# EAGLE library part TPS62130RGTR (library Kas-Power Regulator)
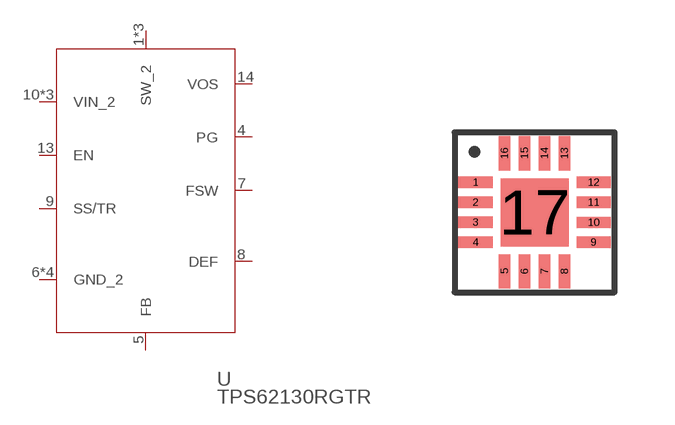
[diagram p1: symbol with the pads of S-PVQFN-N16; footprint S-PVQFN-N16]

Designator prefix U

## TPS62130RGTR (DATASHEETURL: http://www.ti.com/product/tps62130; FREQUENCY: 2500000.0; IMAX: 3.0; MANUFACTURER_NAME: Texas Instruments; MANUFACTURER_PART_NUMBER: TPS62130RGTR; MKTG_PACKAGE: RGT; NSID: TPS62130RGTR; PACKAGE: RGT; VENDOR: Texas Instruments)  [S-PVQFN-N16]
1  SW_2  pas
2  SW_2  pas
3  SW_2  pas
4  PG  pas
5  FB  pas
6  GND_2  pas
7  FSW  pas
8  DEF  pas
9  SS/TR  pas
10  VIN_2  pas
11  VIN_2  pas
12  VIN_2  pas
13  EN  pas
14  VOS  pas
15  GND_2  pas
16  GND_2  pas
17  GND_2  pas

## Footprint S-PVQFN-N16 (pad centres in mm)
smd 0.85 x 0.28: 1 -1.475,0.75; 2 -1.475,0.25; 3 -1.475,-0.25; 4 -1.475,-0.75; 9 1.475,-0.75; 10 1.475,-0.254; 11 1.475,0.25; 12 1.475,0.75
smd 0.28 x 0.85: 5 -0.75,-1.475; 6 -0.25,-1.475; 7 0.25,-1.475; 8 0.75,-1.475; 13 0.75,1.475; 14 0.25,1.475; 15 -0.25,1.475; 16 -0.75,1.475
smd 1.7 x 1.7: 17 0,0